# Altium footprint library XTAL_4PIN.PcbLib: 1 footprints
Each footprint in its own frame and in the unit in brackets; x right, y up, seen from the top. Pads: shape width x height; smd on the part's side, far side on the other; paste and mask are expansions set on the pad; w line width, h text height; cw(c..) or ccw(c..) is an arc to the next point about the centre after c.
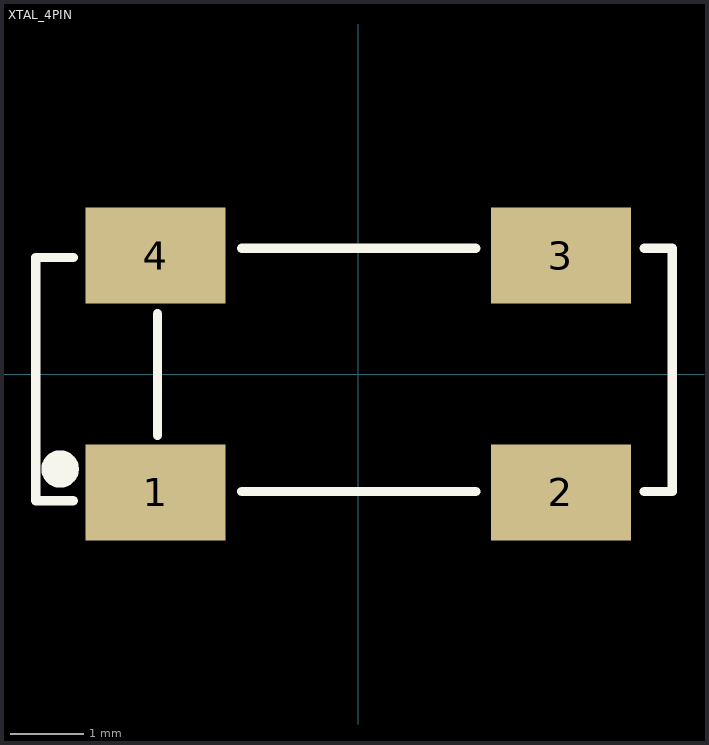
[diagram p0: the footprint, top view; thin cyan lines are the x and y axes]

## XTAL_4PIN [mm] "4PIN贴片晶振"
height 2.54
pads (4):
  rect 1.9x1.3 smd: 1(-2.75,-1.607) 2(2.75,-1.607) 3(2.75,1.607) 4(-2.75,1.607)
Top Overlay:
  circle w0.254: c-4.047,-1.289 r0.127
  lines w0.127: -3.869,-1.721 -4.377,-1.721 -4.377,1.581 -3.869,1.581 ; -2.726,-0.832 -2.726,0.819 ; -1.583,-1.594 1.592,-1.594 ; -1.583,1.708 1.592,1.708 ; 3.878,-1.594 4.259,-1.594 4.259,1.708 3.878,1.708